# EAGLE library part TPS2552DBVT (library UPRA_misc)
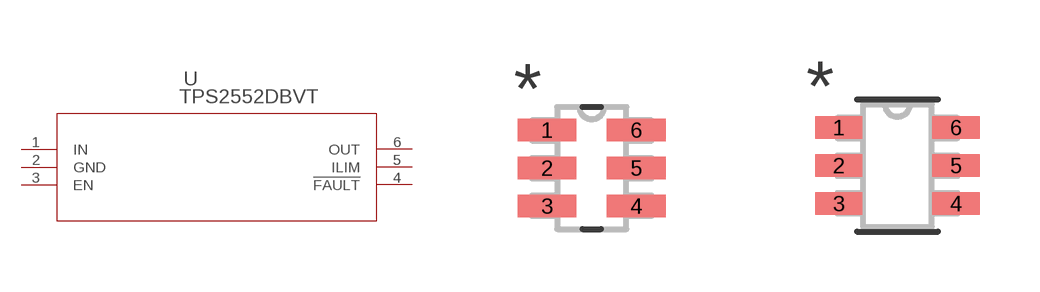
[diagram p3: symbol with the pads of DBV6; footprints DBV6, DBV6-M]

Designator prefix U

## TPS2552DBVT (DATASHEET_URL: http://www.ti.com/lit/gpn/TPS2552; DESCRIPTION: Adjustable, Active Low, Constant-Current, Current-Limited Power-Distribution Switch; FAMILY_NAME: USB POWER SWITCH; GENERIC_PART_NUMBER: TPS2552; INDUSTRY_STD_PKG_TYPE: SOT-23; MANUFACTURER: Texas Instruments; MANUFACTURER_PART_NUMBER: TPS2552DBVT; PACKAGE_DESIGNATOR: DBV; PIN_COUNT: 6; VENDOR: Texas Instruments)  [DBV6]
1  IN  in
2  GND  pwr
3  EN  in
4  !FAULT  out
5  ILIM  in
6  OUT  out

## TPS2552DBVTDBV6-M (DATASHEET_URL: http://www.ti.com/lit/gpn/TPS2552; DESCRIPTION: Adjustable, Active Low, Constant-Current, Current-Limited Power-Distribution Switch; FAMILY_NAME: USB POWER SWITCH; GENERIC_PART_NUMBER: TPS2552; INDUSTRY_STD_PKG_TYPE: SOT-23; MANUFACTURER: Texas Instruments; MANUFACTURER_PART_NUMBER: TPS2552DBVT; PACKAGE_DESIGNATOR: DBV; PIN_COUNT: 6; VENDOR: Texas Instruments)  [DBV6-M]
Pads as for DBV6

## TPS2552DBVTDBV6-L (DATASHEET_URL: http://www.ti.com/lit/gpn/TPS2552; DESCRIPTION: Adjustable, Active Low, Constant-Current, Current-Limited Power-Distribution Switch; FAMILY_NAME: USB POWER SWITCH; GENERIC_PART_NUMBER: TPS2552; INDUSTRY_STD_PKG_TYPE: SOT-23; MANUFACTURER: Texas Instruments; MANUFACTURER_PART_NUMBER: TPS2552DBVT; PACKAGE_DESIGNATOR: DBV; PIN_COUNT: 6; VENDOR: Texas Instruments)  [DBV6-L]
Pads as for DBV6

## Footprint DBV6 (pad centres in mm)
smd 1.473 x 0.559: 1 -1.118,0.95; 2 -1.118,0; 3 -1.118,-0.95; 4 1.118,-0.95; 5 1.118,0; 6 1.118,0.95

## Footprint DBV6-M (pad centres in mm)
smd 1.181 x 0.559: 1 -1.467,0.95; 2 -1.467,0; 3 -1.467,-0.95; 4 1.467,-0.95; 5 1.467,0; 6 1.467,0.95

## Footprint DBV6-L (pad centres in mm)
smd 0.775 x 0.508: 1 -1.264,0.95; 2 -1.264,0; 3 -1.264,-0.95; 4 1.264,-0.95; 5 1.264,0; 6 1.264,0.95